# Altium schematic symbol library EEPROM.SchLib: 1 symbol
Pins are listed as number, name and electrical type; pins without a type are passive.

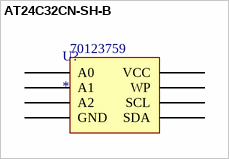
[diagram p0: symbol AT24C32CN-SH-B]

## AT24C32CN-SH-B
designator U?  Supplier Part Number 1: 70123759
SERIAL EEPROM 32K 1.8V,  8 PIN SOIC; Manufacturer: Atmel; Manufacturer Part Number: AT24C32CN-SH-B; Capacitance, Input: 6; Capacitance, Output: 8; Current, Input, Leakage: 0.1; Current, Operating: 0.4 mA (Read), 2 mA (Write); Current, Output, Leakage: 0.05; Data Retention: 100 yrs.; Interface: 2-Wire; Organization: 4096&times;8; Temperature, Operating: -40 to +85; Time, Access: 0.55; Time, Fall: 100; Time, Rise: 0.3; Voltage, Input, High: 2.3 to 6; Voltage, Input, Low: 0.54 to 1.65; Voltage, Output, Low: 0.2; Voltage, Supply: 1.8 to 5.5; Order Multiple: 1; Supplier 1: Allied; RoHS: RoHS Compliant; Category: Memory; Stock 1: 0; Pricing 1: 1=$0.43, 100=$0.36, 250=$0.31 (USD); Density: 32K; Memory Type: Serial EEPROM; Package Type: JEDEC SOIC; Minimum Order Quantity: 1; Package Quantity: EA; ComponentLink1URL: http://www.alliedelec.com//www.alliedelec.com/images/products/datasheets/bm/ATMEL/70123759.pdf; ComponentLink1Description: http://www.alliedelec.com//www.alliedelec.com/images/products/datasheets/bm/ATMEL/70123759.pdf
footprint SOIC127P600X175-8N (SOIC, 8-Leads, Body 4.92x3.90mm, Pitch 1.27mm, IPC Medium Density)
pins: 1 A0, 2 A1, 3 A2, 4 GND, 5 SDA, 6 SCL, 7 WP, 8 VCC